# EAGLE library part SR2X5* (library score-relay)
Safety Relay 2 pole 6 A SCHRACK Source: http://www.schrack.com/.. 5809.pdf
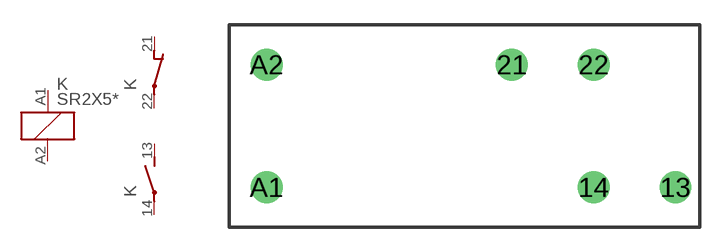
[diagram p110: symbol with the pads of SR2X; footprint SR2X]

Designator prefix K; gates 1=K 2=O 3=S

## SR2X5005 (OC_FARNELL: unknown; OC_NEWARK: unknown), SR2X5006 (OC_FARNELL: unknown; OC_NEWARK: unknown), SR2X5009 (OC_FARNELL: unknown; OC_NEWARK: unknown), SR2X5012 (OC_FARNELL: unknown; OC_NEWARK: unknown), SR2X5018 (OC_FARNELL: unknown; OC_NEWARK: unknown), SR2X5021 (OC_FARNELL: unknown; OC_NEWARK: unknown), SR2X5024 (OC_FARNELL: unknown; OC_NEWARK: unknown), SR2X5036 (OC_FARNELL: unknown; OC_NEWARK: unknown), SR2X5040 (OC_FARNELL: unknown; OC_NEWARK: unknown), SR2X5048 (OC_FARNELL: unknown; OC_NEWARK: unknown), SR2X5060 (OC_FARNELL: unknown; OC_NEWARK: unknown), SR2X5080 (OC_FARNELL: unknown; OC_NEWARK: unknown), SR2X5110 (OC_FARNELL: unknown; OC_NEWARK: unknown)  [SR2X]
13  3:S  pas
14  3:P  pas
21  2:O  pas
22  2:P  pas
A1  1:1  pas
A2  1:2  pas

## Footprint SR2X (pad centres in mm)
Safety Relay 2 pole 6 A SCHRACK Source: http://www.schrack.com/.. 5807.pdf
drill 1.3: 13 12.54,-3.75; 14 7.54,-3.75; 21 2.54,3.75; 22 7.54,3.75; A1 -12.46,-3.75; A2 -12.46,3.75